# Altium schematic symbol library Schlib1.SchLib: 17 symbols
Pins are listed as number, name and electrical type; pins without a type are passive.

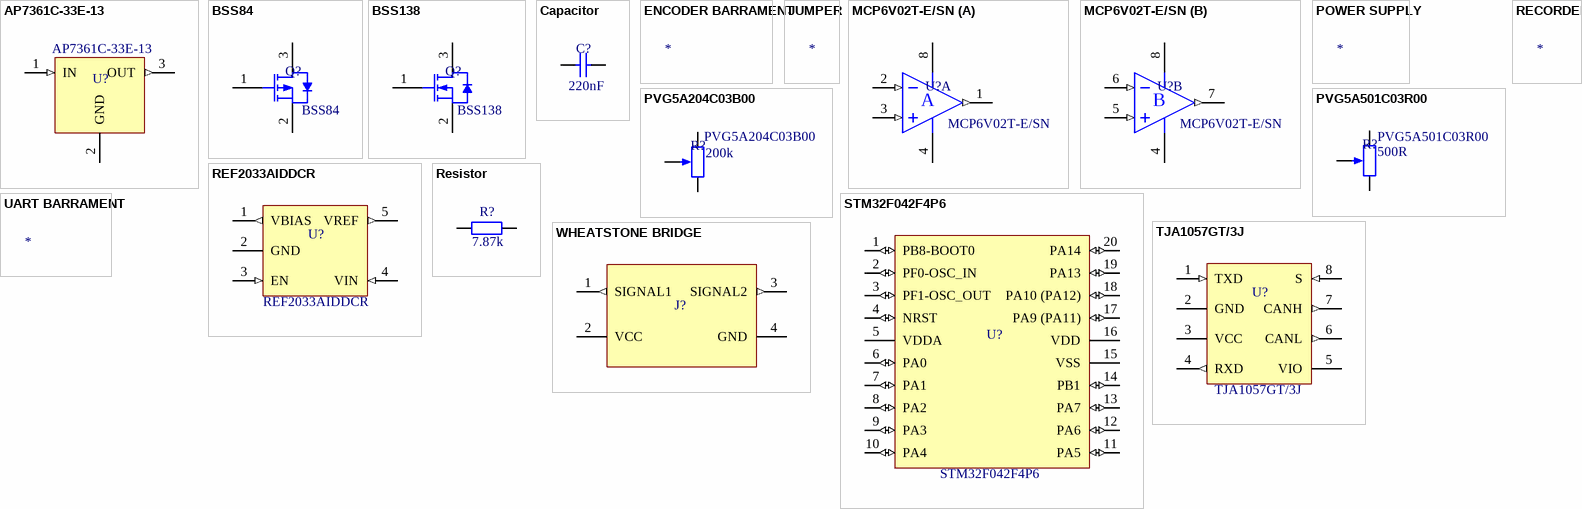
[diagram p0: symbols AP7361C-33E-13 to WHEATSTONE BRIDGE]

## AP7361C-33E-13
designator U?  Manufacturer Part Number: AP7361C-33E-13  (hidden comment: *)
IC REG LINEAR 3.3V 1A SOT223; Manufacturer: Diodes; Dropout Voltage: 360mV; Number of Regulators: 1; Min Current Limit: 1.1A; RoHS: Yes; Mount: Surface Mount; Case/Package: TO-261-4; Number of Pins: 3; Min Operating Temperature: -40°C; Max Operating Temperature: 85°C; Packaging: Tape and Reel; Output Voltage: 3.3V; Output Current: 1A; ComponentLink1URL: http://www.mouser.com/ds/2/115/AP7361C-775034.pdf?src-supplier=Mouser; ComponentLink1Description: http://www.mouser.com/ds/2/115/AP7361C-775034.pdf?src-supplier=Mouser; ComponentLink2URL: https://www.diodes.com/assets/Datasheets/AP7361C.pdf?src-supplier=Digi-Key; ComponentLink2Description: https://www.diodes.com/assets/Datasheets/AP7361C.pdf?src-supplier=Digi-Key; Supplier 1: Mouser; Stock 1: 5503; Pricing 1: 1=0.57000, 10=0.47000, 100=0.28700, 1000=0.22200, 2500=0.18900, 10000=0.18900 (USD); Supplier Part Number 1: 621-AP7361C-33E-13
pins: 1 IN (in), 2 GND (power), 3 OUT (out)

## BSS84
designator Q?  Manufacturer Part Number: BSS84  (hidden comment: *)
MOSFET P-CH 50V 130MA SOT-23; Manufacturer: ON Semiconductor / Fairchild; Power Dissipation: 360mW; Gate to Source Voltage (Vgs): 20V; Drain to Source Breakdown Voltage: -50V; Input Capacitance: 73pF; Rise Time: 6.3ns; Drain to Source Resistance: 10R; Turn-Off Delay Time: 10ns; Element Configuration: Single; Current Rating: -130mA; Current: 13A; Nominal Vgs: -1.7V; Number of Elements: 1; Turn-On Delay Time: 2.5ns; RoHS: Yes; Mount: Surface Mount; Case/Package: SOT-23; Number of Pins: 3; Contact Plating: Tin,Matte; Min Operating Temperature: -55°C; Max Operating Temperature: 150°C; Packaging: Tape and Reel; Continuous Drain Current (ID): 130mA; Drain to Source Voltage (Vdss): 50V; Fall Time: 6.3ns; Voltage Rating (DC): -50V; Max Power Dissipation: 360mW; Package Quantity: 1; Rds On Max: 10R; Voltage: 50V; Dual Supply Voltage: -50V; Threshold Voltage: -1.7V; Termination: SMD/SMT; On-State Resistance: 10R; Length: 2.92mm; Height: 0.93mm; Width: 3.05mm; Radiation Hardening: No; Lead Free: Lead Free; REACH SVHC: No SVHC; ComponentLink1URL: https://datasheet.ciiva.com/5836/1718091-5836624.pdf?src-supplier=Farnell; ComponentLink1Description: https://datasheet.ciiva.com/5836/1718091-5836624.pdf?src-supplier=Farnell; ComponentLink2URL: https://datasheet.ciiva.com/15137/getdatasheetpartid-37444-15137081.pdf?src-supplier=Verical; ComponentLink2Description: https://datasheet.ciiva.com/15137/getdatasheetpartid-37444-15137081.pdf?src-supplier=Verical; ComponentLink3URL: https://datasheet.ciiva.com/4439/bss84-39462-4439115.pdf?src-supplier=Mouser; ComponentLink3Description: https://datasheet.ciiva.com/4439/bss84-39462-4439115.pdf?src-supplier=Mouser; ComponentLink4URL: https://datasheet.ciiva.com/1190/1718091-1190246.pdf?src-supplier=Element14; ComponentLink4Description: https://datasheet.ciiva.com/1190/1718091-1190246.pdf?src-supplier=Element14; ComponentLink5URL: https://datasheet.ciiva.com/931/bss84-931769.pdf?src-supplier=Digi-Key; ComponentLink5Description: https://datasheet.ciiva.com/931/bss84-931769.pdf?src-supplier=Digi-Key; ComponentLink6URL: https://datasheet.ciiva.com/8115/bss84-8115308.pdf?src-supplier=Avnet; ComponentLink6Description: https://datasheet.ciiva.com/8115/bss84-8115308.pdf?src-supplier=Avnet; ComponentLink7URL: https://datasheet.ciiva.com/26144/bss84-26144142.pdf?src-supplier=Avnet+Europe; ComponentLink7Description: https://datasheet.ciiva.com/26144/bss84-26144142.pdf?src-supplier=Avnet+Europe; ComponentLink8URL: https://datasheet.ciiva.com/931/bss84-931768.pdf?src-supplier=Digi-Key; ComponentLink8Description: https://datasheet.ciiva.com/931/bss84-931768.pdf?src-supplier=Digi-Key; ComponentLink9URL: https://datasheet.ciiva.com/1190/1718091-1190248.pdf?src-supplier=Element14; ComponentLink9Description: https://datasheet.ciiva.com/1190/1718091-1190248.pdf?src-supplier=Element14; ComponentLink10URL: https://datasheet.ciiva.com/8115/bss84-8115305.pdf?src-supplier=Avnet; ComponentLink10Description: https://datasheet.ciiva.com/8115/bss84-8115305.pdf?src-supplier=Avnet; ComponentLink11URL: https://datasheet.ciiva.com/931/bss84-931770.pdf?src-supplier=Digi-Key; ComponentLink11Description: https://datasheet.ciiva.com/931/bss84-931770.pdf?src-supplier=Digi-Key; ComponentLink12URL: https://datasheet.ciiva.com/22655/1718091-22655243.pdf?src-supplier=Element14; ComponentLink12Description: https://datasheet.ciiva.com/22655/1718091-22655243.pdf?src-supplier=Element14; ComponentLink13URL: https://datasheet.ciiva.com/1255/1718091-1255039.pdf?src-supplier=Newark; ComponentLink13Description: https://datasheet.ciiva.com/1255/1718091-1255039.pdf?src-supplier=Newark; Supplier 1: Mouser; Stock 1: 95377; Pricing 1: 1=0.33000, 10=0.22700, 100=0.09400, 1000=0.06400, 3000=0.05000, 9000=0.04300, 24000=0.04000, 45000=0.03700, 99000=0.03200 (USD); Supplier Part Number 1: 512-BSS84
pins: 1 G, 2 S, 3 D

## BSS138
designator Q?  Manufacturer Part Number: BSS138  (hidden comment: *)
MOSFET N-CH 50V 220MA SOT-23; Manufacturer: ON Semiconductor / Fairchild; Element Configuration: Single; Rds On Max: 3.5R; Input Capacitance: 27pF; Max Power Dissipation: 360mW; Rise Time: 9ns; Turn-Off Delay Time: 20ns; Gate to Source Voltage (Vgs): 20V; Turn-On Delay Time: 2.5ns; Number of Elements: 1; Threshold Voltage: 1.3V; On-State Resistance: 6R; Supplier 1: Mouser; Stock 1: 707884; Pricing 1: 1=0.26000, 10=0.17800, 100=0.07400, 1000=0.05000, 3000=0.03900, 9000=0.03300, 24000=0.03100, 45000=0.02900 (USD); RoHS: Yes; Mount: Surface Mount; Case/Package: SOT-23; Number of Pins: 3; Weight: 0.03g; Contact Plating: Tin,Matte; Min Operating Temperature: -55°C; Max Operating Temperature: 150°C; Packaging: Tape and Reel; Continuous Drain Current (ID): 220mA; Drain to Source Voltage (Vdss): 50V; Drain to Source Breakdown Voltage: 50V; Fall Time: 9ns; Drain to Source Resistance: 3.5R; Package Quantity: 1; Power Dissipation: 360mW; Voltage Rating (DC): 50V; Current Rating: 220mA; Nominal Vgs: 1.3V; Dual Supply Voltage: 50V; Termination: SMD/SMT; Length: 2.92mm; Height: 0.93mm; Width: 1.3mm; Radiation Hardening: No; Lead Free: Lead Free; REACH SVHC: No SVHC; ComponentLink1URL: https://datasheet.ciiva.com/931/bss138-931776.pdf?src-supplier=Digi-Key; ComponentLink1Description: https://datasheet.ciiva.com/931/bss138-931776.pdf?src-supplier=Digi-Key; ComponentLink2URL: https://datasheet.ciiva.com/1190/193736-1190130.pdf?src-supplier=Element14; ComponentLink2Description: https://datasheet.ciiva.com/1190/193736-1190130.pdf?src-supplier=Element14; ComponentLink3URL: https://datasheet.ciiva.com/27050/784896-27050043.pdf?src-supplier=Jameco; ComponentLink3Description: https://datasheet.ciiva.com/27050/784896-27050043.pdf?src-supplier=Jameco; ComponentLink4URL: https://datasheet.ciiva.com/1190/193736-1190131.pdf?src-supplier=Element14; ComponentLink4Description: https://datasheet.ciiva.com/1190/193736-1190131.pdf?src-supplier=Element14; ComponentLink5URL: https://datasheet.ciiva.com/1254/193736-1254983.pdf?src-supplier=Newark; ComponentLink5Description: https://datasheet.ciiva.com/1254/193736-1254983.pdf?src-supplier=Newark; ComponentLink6URL: https://datasheet.ciiva.com/16834/bss138-16834843.pdf?src-supplier=Future+Electronics; ComponentLink6Description: https://datasheet.ciiva.com/16834/bss138-16834843.pdf?src-supplier=Future+Electronics; ComponentLink7URL: https://datasheet.ciiva.com/26229/bss138-26229007.pdf?src-supplier=Avnet+Europe; ComponentLink7Description: https://datasheet.ciiva.com/26229/bss138-26229007.pdf?src-supplier=Avnet+Europe; ComponentLink8URL: https://datasheet.ciiva.com/3304/bss138-3304424.pdf?src-supplier=Avnet; ComponentLink8Description: https://datasheet.ciiva.com/3304/bss138-3304424.pdf?src-supplier=Avnet; ComponentLink9URL: https://datasheet.ciiva.com/22655/193736-22655240.pdf?src-supplier=Element14; ComponentLink9Description: https://datasheet.ciiva.com/22655/193736-22655240.pdf?src-supplier=Element14; Supplier Part Number 1: 512-BSS138
pins: 1 G, 2 S, 3 D

## Capacitor
designator C?  value 220nF  (hidden comment: *)
pins: 1, 2

## ENCODER BARRAMENT
designator *  (value not drawn)

## JUMPER
designator *  (value not drawn)

## MCP6V02T-E/SN
designator U?  Manufacturer Part Number: MCP6V02T-E/SN  (hidden comment: *)
IC OPAMP CHOPPER 1.3MHZ 8SOIC; Manufacturer: Microchip; Number of Channels: 2; Output Current: 22mA; Slew Rate: 0.5V/µs; Nominal Supply Current: 300uA; Min Supply Voltage: 1.8V; Max Supply Voltage: 5.5V; Voltage Gain: 156dB; Common Mode Rejection Ratio: 130dB; Input Offset Voltage (Vos): 2uV; Input Bias Current: 1pA; Supplier 1: Mouser; Stock 1: 1362; Pricing 1: 1=2.55000, 10=2.55000, 25=2.12000, 100=1.93000, 250=1.93000, 500=1.93000 (USD); RoHS: Yes; Mount: Surface Mount; Case/Package: SOIC; Number of Pins: 8; Min Operating Temperature: -40°C; Max Operating Temperature: 125°C; Packaging: Tape and Reel; Unity Gain Bandwidth Product: 1.3MHz; Package Quantity: 3300; Gain Bandwidth Product: 1.3MHz; Operating Supply Current: 300uA; Number of Circuits: 2; Output Current per Channel: 22mA; Number of Elements: 2; Power Supply Rejection Ratio (PSRR): 130dB; Radiation Hardening: No; Lead Free: Lead Free; ComponentLink1URL: https://datasheet.ciiva.com/11710/22058c-11710950.pdf?src-supplier=Avnet; ComponentLink1Description: https://datasheet.ciiva.com/11710/22058c-11710950.pdf?src-supplier=Avnet; ComponentLink2URL: https://datasheet.ciiva.com/1806/22058c-1806668.pdf?src-supplier=Digi-Key; ComponentLink2Description: https://datasheet.ciiva.com/1806/22058c-1806668.pdf?src-supplier=Digi-Key; ComponentLink3URL: https://datasheet.ciiva.com/16453/filehandler-aspxddocname-en535978-16453870.pdf?src-supplier=Future+Electronics; ComponentLink3Description: https://datasheet.ciiva.com/16453/filehandler-aspxddocname-en535978-16453870.pdf?src-supplier=Future+Electronics; ComponentLink4URL: https://datasheet.ciiva.com/17572/22058c-17572430.pdf?src-supplier=Avnet+Europe; ComponentLink4Description: https://datasheet.ciiva.com/17572/22058c-17572430.pdf?src-supplier=Avnet+Europe; Supplier Part Number 1: 579-MCP6V02T-E/SN
part A pins: 1 OUT (out), 2 IN- (in), 3 IN+ (in), 4 V- (power), 8 V+ (power)
part B pins: 4 V- (power), 5 IN+ (in), 6 IN- (in), 7 OUT (out), 8 V+ (power)
part A text: A
part B text: B

## POWER SUPPLY
designator *  (value not drawn)

## PVG5A204C03B00
designator R?  Resistance: 200k  Manufacturer Part Number: PVG5A204C03B00  (hidden comment: *)
Trimmer Resistors - SMD 200Kohms 5mm 11turn Top Adjust; Manufacturer: Bourns; RoHS: No; ComponentLink1URL: http://www.mouser.com/ds/2/54/vg5-907351.pdf?src-supplier=Mouser; ComponentLink1Description: http://www.mouser.com/ds/2/54/vg5-907351.pdf?src-supplier=Mouser; Supplier 1: Mouser; Stock 1: 402; Pricing 1: 1=2.54000, 10=2.11000, 100=2.04000, 500=1.82000, 1000=1.82000, 2500=1.82000 (USD); Supplier Part Number 1: 81-PVG5A204C03B00
pins: 1 TOP, 2 BOT, 3 TAP

## PVG5A501C03R00
designator R?  Resistance: 500R  Manufacturer Part Number: PVG5A501C03R00  (hidden comment: *)
Res Cermet Trimmer 500 Ohm 10% 1/4W 11(Elec)Turn 1.5mm (4.8 X 3.9 X 5mm) J-Hook SMD T/R; Manufacturer: Bourns; Number of Turns: 11; Max Power Dissipation: 250mW; Temperature Coefficient: 150ppm/°C; Supplier 1: Mouser; Stock 1: 334; Pricing 1: 1=3.19000, 10=2.51000, 50=2.42000, 100=2.02000, 500=1.86000, 1000=1.58000 (USD); RoHS: Yes; Mount: Surface Mount; Packaging: Cut Tape; Tolerance: 10%; Composition: Cermet; Height: 0.201inch; ComponentLink1URL: http://www.mouser.com/ds/2/54/vg5-907351.pdf?src-supplier=Mouser; ComponentLink1Description: http://www.mouser.com/ds/2/54/vg5-907351.pdf?src-supplier=Mouser; ComponentLink2URL: https://www.bourns.com/docs/Product-Datasheets/pvg5.pdf?src-supplier=Digi-Key; ComponentLink2Description: https://www.bourns.com/docs/Product-Datasheets/pvg5.pdf?src-supplier=Digi-Key; ComponentLink3URL: http://www.bourns.com/docs/Product-Datasheets/pvg5.pdf?src-supplier=Digi-Key; ComponentLink3Description: http://www.bourns.com/docs/Product-Datasheets/pvg5.pdf?src-supplier=Digi-Key; Supplier Part Number 1: 81-PVG5A501C03R00
pins: 1 TOP, 2 BOT, 3 TAP

## RECORDER
designator *  (value not drawn)

## REF2033AIDDCR
designator U?  Manufacturer Part Number: REF2033AIDDCR  (hidden comment: *)
V-Ref Precision 3.3V 20mA 5-Pin TSOT-23 T/R; Manufacturer: Texas Instruments; Temperature Coefficient: 8ppm/°C; Operating Supply Current: 460uA; Tolerance: 0.05%; Quiescent Current: 360uA; Reference Type: Series; Output Type: Fixed; RoHS: Yes; Mount: Surface Mount; Case/Package: SOT-23-5; Number of Pins: 5; Min Operating Temperature: -40°C; Max Operating Temperature: 125°C; Packaging: Tape and Reel; Min Output Voltage: 3.3V; Output Current: 20mA; Max Output Voltage: 3.3V; Lead Free: Lead Free; ComponentLink1URL: http://components.arrow.com/part/dataview/68227410S974694N7713?src-supplier=Arrow; ComponentLink1Description: http://components.arrow.com/part/dataview/68227410S974694N7713?src-supplier=Arrow; ComponentLink2URL: http://www.ti.com/lit/ds/symlink/ref2033.pdf?src-supplier=Digi-Key; ComponentLink2Description: http://www.ti.com/lit/ds/symlink/ref2033.pdf?src-supplier=Digi-Key; ComponentLink3URL: http://www.ti.com/general/docs/lit/getliterature.tsp?genericPartNumber=REF2041&&fileType=pdf&src-supplier=Avnet; ComponentLink3Description: http://www.ti.com/general/docs/lit/getliterature.tsp?genericPartNumber=REF2041&&fileType=pdf&src-supplier=Avnet; Supplier 1: Mouser; Supplier Part Number 1: 595-REF2033AIDDCR
pins: 1 VBIAS (out), 2 GND (power), 3 EN (in), 4 VIN (in), 5 VREF (out)

## Resistor
designator R?  value 7.87k  (hidden comment: *)
pins: 1, 2

## STM32F042F4P6
designator U?  Manufacturer Part Number: STM32F042F4P6  (hidden comment: *)
IC MCU 32BIT 16KB FLASH 20TSSOP; Manufacturer: STMicroelectronics; RAM Size: 6KB; Max Power Dissipation: 263mW; Interface: I2C,SPI,USB,CAN,HDMI,IrDA,UART,USART,LIN,I2S; Number of I/Os: 16; Number of Timers/Counters: 6; Frequency: 48MHz; Oscillator Type: Internal; Data Bus Width: 32b; Watchdog Timer: Yes; Peripherals: POR,PWM,WDT,DMA; Core Architecture: ARM; Min Supply Voltage: 2V; Max Supply Voltage: 3.6V; Number of USB Channels: 1; Number of ADC Channels: 12; Number of I2C Channels: 2; Supplier 1: Mouser; Stock 1: 548; Pricing 1: 1=2.18000, 10=1.85000, 100=1.48000, 500=1.30000, 1000=1.08000, 2500=0.99800, 5000=0.96100, 10000=0.92400, 25000=0.88700 (USD); RoHS: Yes; Mount: Surface Mount; Case/Package: TSSOP; Number of Pins: 20; Weight: 0.006737oz; Min Operating Temperature: -40°C; Max Operating Temperature: 85°C; Packaging: Rail/Tube; Number of Programmable I/O: 16; Max Frequency: 48MHz; Memory Type: FLASH; Memory Size: 16KB; Package Quantity: 1480; Number of SPI Channels: 1; Number of PWM Channels: 6; Length: 6.6mm; Height: 1.05mm; Width: 4.5mm; Radiation Hardening: No; REACH SVHC: No SVHC; Lead Free: Lead Free; ComponentLink1URL: https://datasheet.ciiva.com/48494/dm00105814-48494121.pdf?src-supplier=Avnet; ComponentLink1Description: https://datasheet.ciiva.com/48494/dm00105814-48494121.pdf?src-supplier=Avnet; Supplier Part Number 1: 511-STM32F042F4P6
footprint TSSOP20
pins: 1 PB8-BOOT0 (io), 2 PF0-OSC_IN (io), 3 PF1-OSC_OUT (io), 4 NRST (io), 5 VDDA (power), 6 PA0 (io), 7 PA1 (io), 8 PA2 (io), 9 PA3 (io), 10 PA4 (io), 11 PA5 (io), 12 PA6 (io), 13 PA7 (io), 14 PB1 (io), 15 VSS (power), 16 VDD (power), 17 PA9 (PA11) (io), 18 PA10 (PA12) (io), 19 PA13 (io), 20 PA14 (io)

## TJA1057GT/3J
designator U?  Manufacturer Part Number: TJA1057GT/3J  (hidden comment: *)
IC TRANSCEIVER CAN HS 8SOIC; Manufacturer: NXP Semiconductors; Simplex/Duplex: Half Duplex; Receiver Hysteresis: 300mV; Supplier 1: Mouser; Stock 1: 15669; Pricing 1: 1=0.91000, 10=0.77100, 100=0.59200, 500=0.52300, 1000=0.41300, 2500=0.36700, 10000=0.35300, 25000=0.34200, 50000=0.33100 (USD); RoHS: Yes; Mount: Surface Mount; Case/Package: SOIC; Min Operating Temperature: -40°C; Max Operating Temperature: 150°C; Packaging: Tape and Reel; ComponentLink1URL: http://www.farnell.com/datasheets/2342557.pdf?src-supplier=Farnell; ComponentLink1Description: http://www.farnell.com/datasheets/2342557.pdf?src-supplier=Farnell; ComponentLink2URL: https://www.nxp.com/docs/en/data-sheet/TJA1057.pdf?src-supplier=Digi-Key; ComponentLink2Description: https://www.nxp.com/docs/en/data-sheet/TJA1057.pdf?src-supplier=Digi-Key; Supplier Part Number 1: 771-TJA1057GT/3J
pins: 1 TXD (in), 2 GND (power), 3 VCC (power), 4 RXD (out), 5 VIO (power), 6 CANL (out), 7 CANH (out), 8 S (in)

## UART BARRAMENT
designator *  (value not drawn)

## WHEATSTONE BRIDGE
designator J?  (value not drawn)
Headers & Wire Housings NANO-FIT HDR SMT VT DLR 4CKT 15AU BLK; Manufacturer: Molex; Manufacturer Part Number: 105429-1204; Supplier 1: Mouser; Stock 1: 868; Pricing 1: 1=2.31000, 10=2.09000, 25=2.09000, 100=1.79000, 300=1.79000, 600=1.76000, 900=1.50000, 2400=1.40000, 4800=1.34000 (USD); RoHS: No; Supplier Part Number 1: 538-105429-1204
pins: 1 SIGNAL1 (out), 2 VCC (power), 3 SIGNAL2 (out), 4 GND (power)